# Altium integrated library DecadeCounter_CD4026.IntLib: 1 symbol
Pins are listed as number, name and electrical type; pins without a type are passive.

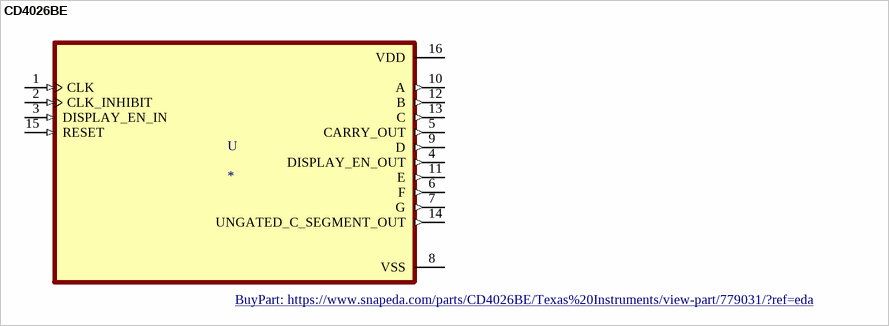
[diagram p0: symbol CD4026BE]

## CD4026BE
designator U
CMOS Decade Counter/Divider with Decoded 7-Segment Display Outputs and Display Enable 16-PDIP -55 to 125; MF: Texas Instruments; MP: CD4026BE; DigiKey-Purchase-URL: https://snapeda.com/shop?store=DigiKey&id=779031; Package: PDIP-16 Texas Instruments; Mouser-Purchase-URL: https://snapeda.com/shop?store=Mouser&id=779031; Price: None; Availability: Good; Texas_Instruments-Purchase-URL: https://snapeda.com/shop?store=Texas+Instruments&id=779031; SnapEDA_Link: https://www.snapeda.com/parts/CD4026BE/Texas%20Instruments/view-part/779031/?ref=snap; Value: *; BuyPart: https://www.snapeda.com/parts/CD4026BE/Texas%20Instruments/view-part/779031/?ref=eda
footprint DIP794W45P254L1969H508Q16
pins: 1 CLK (in), 2 CLK_INHIBIT (in), 3 DISPLAY_EN_IN (in), 4 DISPLAY_EN_OUT (out), 5 CARRY_OUT (out), 6 F (out), 7 G (out), 8 VSS (power), 9 D (out), 10 A (out), 11 E (out), 12 B (out), 13 C (out), 14 UNGATED_C_SEGMENT_OUT (out), 15 RESET (in), 16 VDD (power)